# Altium schematic symbol library HRM-G-300-467B-1.SchLib: 1 symbol
Pins are listed as number, name and electrical type; pins without a type are passive.

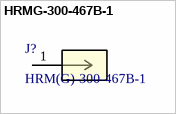
[diagram p0: symbol HRMG-300-467B-1]

## HRMG-300-467B-1
designator J?, comment HRM(G)-300-467B-1
Description; Manufacturer_Name: Hirose; Copyright: Copyright (C) 2026 Ultra Librarian. All rights reserved.; Manufacturer_Part_Number: HRM(G)-300-467B-1; RefDes: RefDes; Type: Type
footprint CONN_HRMG-300-467B-1_HIR
pins: 1